# Altium schematic symbol library TL494ID.SchLib: 1 symbol
Pins are listed as number, name and electrical type; pins without a type are passive.

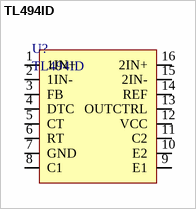
[diagram p0: symbol TL494ID]

## TL494ID
designator U?
Driver; kontroler PWM; 200mA; 40V; Kanały:2; SO16; Manufacturer: Texas Instruments; MPN: TL494ID; Supplier: TME; Soc: TL494ID
footprint TL494ID (SOIC, 16-Leads, Body 9,90x3,90mm, Pitch 1,27mm, IPC Medium Density)
pins: 1 1IN+, 2 1IN-, 3 FB, 4 DTC, 5 CT, 6 RT, 7 GND, 8 C1, 9 E1, 10 E2, 11 C2, 12 VCC, 13 OUTCTRL, 14 REF, 15 2IN-, 16 2IN+